# Altium integrated library NMOS_SOT23.IntLib: 1 symbol
Pins are listed as number, name and electrical type; pins without a type are passive.

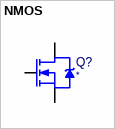
[diagram p0: symbol NMOS]

## NMOS
designator Q?
BUY_LINK: *; ID: *; PDF: *
footprint SOT23
pins: 1, 2, 3